# Altium schematic symbol library Components - 25.09.24 - 12.57.SchLib: 1 symbol
Pins are listed as number, name and electrical type; pins without a type are passive.

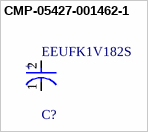
[diagram p0: symbol CMP-05427-001462-1]

## CMP-05427-001462-1
designator C?, comment EEUFK1V182S
Aluminum Electrolytic Capacitors (Radial Lead Type) AEC-Q200 Qualified 1800uF ±20% 35V; Dielectric Material: Aluminium; Ripple Current: 2.33A; Impedance: 26mR; Dissipation Factor: 0.12%; Lead/Base Style: Straight; Lead Diameter: 0.8mm; Capacitance: 1.8mF; Life (Hours): 5000Hour; Max Operating Temperature: 105°C; Height: 20mm; Voltage: 35V; Construction: RADIAL; Case/Package: Radial; Termination: Radial; Lead Pitch: 7.5mm; RoHS Compliant: Yes; Number of Pins: 2; Packaging: Bulk; Tolerance: 20%; Mount: Through Hole; Length: 20mm; Diameter: 16mm; Voltage Rating: 35V; REACH SVHC: No SVHC; Series: FK; Package Quantity: 100; Voltage Rating (DC): 35V; Radiation Hardening: No; Min Operating Temperature: -55°C
footprint FP-RAD-TH-D_16_0_5-L_20_2-MFG
pins: 1 C, 2 A
text: +